# Altium footprint library IMR_LIB_PCB.PcbLib: 119 footprints (part 1 of 8)
Each footprint in its own frame and in the unit in brackets; x right, y up, seen from the top. Pads: shape width x height; smd on the part's side, far side on the other; paste and mask are expansions set on the pad; w line width, h text height; cw(c..) or ccw(c..) is an arc to the next point about the centre after c.
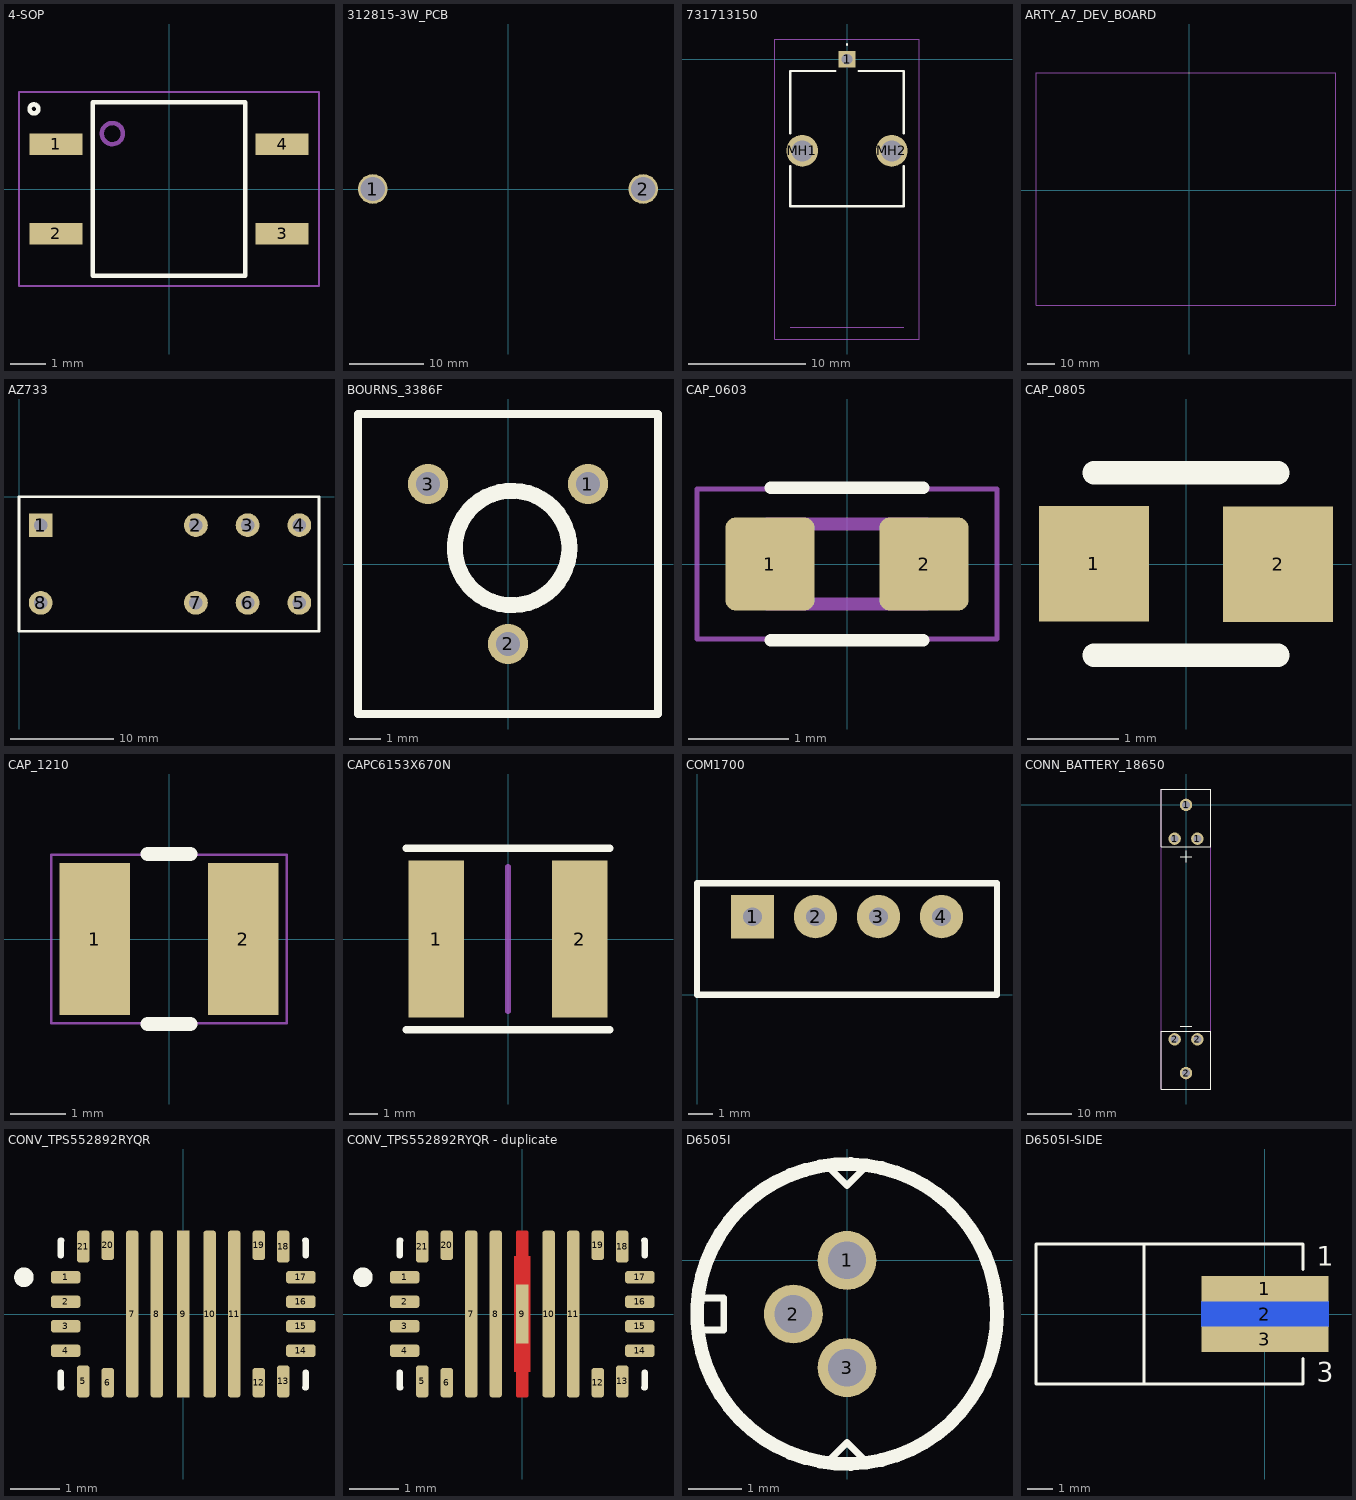
[diagram p0: the footprints below, top view; thin cyan lines are the x and y axes]

## 4-SOP [mm] "SOIC254P695X242-4N"
height 2.3
pads (4):
  rect 1.5x0.6 smd: 1(-3.205,1.27) 2(-3.205,-1.27) 3(3.205,-1.27) 4(3.205,1.27)
Top Overlay:
  circle w0.127: c-3.826,2.27 r0.127
  lines w0.127: -2.159,-2.46 2.159,-2.46 2.159,2.46 -2.159,2.46 -2.159,-2.46
3D Top:
  circle w0.127: c-1.605,1.57 r0.3
Courtyard Top:
  lines w0.05: -4.25,-2.75 4.25,-2.75 4.25,2.75 -4.25,2.75 -4.25,-2.75
3D body: height 2.4, standoff 0, extent -3.5,-1.925 3.5,1.925

## 312815-3W_PCB [mm] "Speaker Mounted (31x28x15)MM"
height 15
pads (2):
  round 4 hole 3.3 unplated: 1(-18.25,0) 2(18.25,0)
3D body: height 9.6, standoff -5.6, extent -22,-19.65 22,15.65

## 731713150 [mm]
pads (3):
  rect 1.431x1.431 hole 0.92: 1(0,0)
  round 2.7 hole 1.8: MH1(-3.8,-7.8) MH2(3.8,-7.8)
Top Overlay:
  lines w0.1: 0,1.2 cw(c0,1.25) 0,1.3 cw(c0,1.25) 0,1.2
  lines w0.2: -4.825,-9.1 -4.825,-12.5 4.825,-12.5 4.825,-9.1 ; -4.825,-6.3 -4.825,-1 -1,-1 ; 1,-1 4.825,-1 4.825,-6.3
Courtyard Top:
  lines w0.1: -4.825,-22.8 4.825,-22.8
Test Points Bottom:
  lines w0.1: -6.15,-23.8 -6.15,1.716 6.15,1.716 6.15,-23.8 -6.15,-23.8
3D body: height 9.39, standoff -2.89, extent -4.825,-25.525 4.825,0.025

## ARTY_A7_DEV_BOARD [mm] "Digilent Arty A7 Development Board"
height 20
3D Top:
  lines w0.254: -56.75,-42.75 -56.75,43.5 54.5,43.5 54.5,-42.75 -56.75,-42.75
3D body: height 16.3, standoff -3.7, extent -56.715,-42.86 54.5,43.5

## AZ733 [mm] "AMERICAN ZETTLER AZ733 SERIES"
height 26.3
pads (8):
  rect 2.3x2.3 hole 1.3: 1(2.1,-2.75)
  round 2.3 hole 1.3: 2(17.1,-2.75) 3(22.1,-2.75) 4(27.1,-2.75) 5(27.1,-10.25) 6(22.1,-10.25) 7(17.1,-10.25) 8(2.1,-10.25)
Top Overlay:
  lines w0.254: 0,-13 0,0 29,0 29,-13 0,-13
3D body: height 26.3, standoff 0, extent 0,-13 29,0

## BOURNS_3386F [mil] "RESISTOR POT 3386F SERIES"
height 410
pads (3):
  round 50 hole 30: 1(100,100) 2(0,-100) 3(-100,100)
Top Overlay:
  circle w20: c5,20 r71.59
  lines w10: -187.5,-187.5 -187.5,187.5 187.5,187.5 187.5,-187.5 -187.5,-187.5
3D body: height 411.85, standoff -233.15, extent -188.5,-190.15 188.5,196.85

## CAP_0603 [mm] "CAP 0603 50V"
height 0.9
pads (2):
  rrect22% 0.89x0.93 smd: 1(-0.77,0) 2(0.77,0)
Top Overlay:
  lines w0.127: -0.762,-0.762 0.762,-0.762 ; -0.762,0.762 0.762,0.762
3D Top:
  circle w0.1: c-1.05,0 r0.05
  lines w0.127: -0.8,-0.4 0.8,-0.4 0.8,0.4 -0.8,0.4 -0.8,-0.4
Courtyard Top:
  lines w0.05: -1.5,-0.75 1.5,-0.75 1.5,0.75 -1.5,0.75 -1.5,-0.75
3D body: height 0.85, standoff -0.05, extent -0.8,-0.405 0.8,0.405

## CAP_0805 [mm]
height 1
pads (2):
  rect 1.2x1.27 smd: 1(-1.008,0.003) 2(1.008,-0.003)
Top Overlay:
  lines w0.254: -1.008,-1 1.008,-1 ; -1.008,1 1.008,1
3D body: height 1.26, standoff 0.01, extent -1.05,-0.625 0.95,0.625

## CAP_1210 [mm] "CAP 1210"
height 0.2
pads (2):
  rect 1.26x2.72 smd: 1(-1.33,0) 2(1.33,0)
Top Overlay:
  lines w0.254: -0.381,-1.524 0.381,-1.524 ; -0.381,1.524 0.381,1.524
Courtyard Top:
  lines w0.1: -1.6,-1.25 -1.6,1.25 ; 1.6,-1.25 1.6,1.25
Test Points Bottom:
  lines w0.05: -2.11,-1.51 2.11,-1.51 2.11,1.51 -2.11,1.51 -2.11,-1.51
3D body: height 2.7, standoff 0, extent -1.6,-1.25 1.6,1.25

## CAPC6153X670N [mm] "CAPC6153X670N"
pads (2):
  rect 1.95x5.52 smd: 1(-2.53,0) 2(2.53,0)
Top Overlay:
  lines w0.254: -3.6,-3.2 3.6,-3.2 ; -3.6,3.2 3.6,3.2
Assembly Top:
  lines w0.1: -3.05,-2.65 -3.05,2.65 ; 3.05,-2.65 3.05,2.65
Mechanical 22:
  lines w0.2: 0,-2.55 0,2.55
3D body: height 6.7, standoff 0, extent -3.05,-2.65 3.05,2.65

## COM1700 [mm] "AOSONG COM1700"
height 15
pads (4):
  rect 1.75x1.75 hole 0.75: 1(2.24,3.15)
  round 1.75 hole 0.75: 2(4.78,3.15) 3(7.32,3.15) 4(9.86,3.15)
Top Overlay:
  lines w0.254: 0,0 0,4.5 12.1,4.5 12.1,0 0,0
3D body: height 15, standoff 0, extent 0,0 12.1,4.5

## CONN_BATTERY_18650 [mil] "BATTERY CONNECTOR 18650 MADE OF 2X KEYSTONE 54"
height 629.92
pads (6):
  round 110 hole 70: 1(-100,-300) 1(0,0) 1(100,-300) 2(-100,-2074.88) 2(0,-2374.88) 2(100,-2074.88)
Top Overlay:
  lines w10: -50,-1957.91 50,-1957.91 ; -50,-457.91 50,-457.91 ; 0,-507.91 0,-407.91 ; -220,-2514.88 220,-2514.88 220,-2004.88 -220,-2004.88 -220,-2514.88 ; -220,-370 220,-370 220,140 -220,140 -220,-370
Courtyard Top:
  lines w10: -220,-2514.88 220,-2514.88 220,140 -220,140 -220,-2514.88
3D body: height 724.41, standoff -116.25, extent -360.27,-371.93 352.39,140.16
3D body: height 724.41, standoff -116.25, extent -360.27,-2517.32 352.39,-2005.24
3D body: height 750, standoff 50, extent -349.68,-2443.35 349.68,56.65

## CONV_TPS552892RYQR [mm]
height 1
pads (21):
  rrect40% 0.6x0.25 smd paste-1 mask+0: 1(-2.4,0.75) 2(-2.4,0.25) 3(-2.4,-0.25) 4(-2.4,-0.75) 14(2.4,-0.75) 15(2.4,-0.25) 16(2.4,0.25) 17(2.4,0.75)
  rrect40% 0.25x0.65 smd paste-1 mask+0: 5(-2.04,-1.375) 13(2.04,-1.375) 18(2.04,1.375) 21(-2.04,1.375)
  rrect40% 0.25x0.6 smd paste-1 mask+0: 6(-1.54,-1.4) 12(1.54,-1.4) 19(1.54,1.4) 20(-1.54,1.4)
  rrect40% 0.25x3.4 smd: 7(-1.04,0) 8(-0.54,0) 10(0.54,0) 11(1.04,0)
  rect 0.25x3.4 smd: 9(0,0)
Top Overlay:
  circle w0.2: c-3.25,0.75 r0.1
  lines w0.127: -2.5,-1.195 -2.5,-1.5 -2.485,-1.5 ; -2.5,1.195 -2.5,1.5 -2.485,1.5 ; 2.485,-1.5 2.5,-1.5 2.5,-1.195 ; 2.485,1.5 2.5,1.5 2.5,1.195
Top Paste:
  drawing of 16 lines, arcs and shapes, not listed
Top Solder:
  drawing of 16 lines, arcs and shapes, not listed
3D body: height 1, standoff 0, extent -2.5,-1.5 2.5,1.5

## CONV_TPS552892RYQR - duplicate [mm]
height 1
pads (21):
  rrect40% 0.6x0.25 smd paste-1 mask+0: 1(-2.4,0.75) 2(-2.4,0.25) 3(-2.4,-0.25) 4(-2.4,-0.75) 14(2.4,-0.75) 15(2.4,-0.25) 16(2.4,0.25) 17(2.4,0.75)
  rrect40% 0.25x0.65 smd paste-1 mask+0: 5(-2.04,-1.375) 13(2.04,-1.375) 18(2.04,1.375) 21(-2.04,1.375)
  rrect40% 0.25x0.6 smd paste-1 mask+0: 6(-1.54,-1.4) 12(1.54,-1.4) 19(1.54,1.4) 20(-1.54,1.4)
  rrect40% 0.25x3.4 smd paste-3 mask+0: 7(-1.04,0) 8(-0.54,0) 10(0.54,0) 11(1.04,0)
  rect 0.25x1.2 smd paste-2 mask+0: 9(0,0)
Top Layer:
  region: 0.083,1.699 0.085,1.699 0.088,1.698 0.09,1.698 0.093,1.697 0.095,1.696 0.098,1.695 0.1,1.693 0.102,1.692 0.104,1.69 0.106,1.689 0.108,1.687 0.11,1.685 0.112,1.683 0.114,1.681 0.115,1.679 0.117,1.677 0.118,1.675 0.12,1.673 0.121,1.67 0.122,1.668 0.123,1.665 0.123,1.663 0.124,1.66 0.124,1.658 0.125,1.655 0.125,1.653 0.125,1.65 0.125,1.175 0.165,1.175 0.165,-1.175 0.125,-1.175 0.125,-1.65 0.125,-1.653 0.125,-1.655 0.124,-1.658 0.124,-1.66 0.123,-1.663 0.123,-1.665 0.122,-1.668 0.121,-1.67 0.12,-1.673 0.118,-1.675 0.117,-1.677 0.115,-1.679 0.114,-1.681 0.112,-1.683 0.11,-1.685 0.108,-1.687 0.106,-1.689 0.104,-1.69 0.102,-1.692 0.1,-1.693 0.098,-1.695 0.095,-1.696 0.093,-1.697 0.09,-1.698 0.088,-1.698 0.085,-1.699 0.083,-1.699 0.08,-1.7 -0.08,-1.7 -0.083,-1.699 -0.085,-1.699 -0.088,-1.698 -0.09,-1.698 -0.093,-1.697 -0.095,-1.696 -0.098,-1.695 -0.1,-1.693 -0.102,-1.692 -0.104,-1.69 -0.106,-1.689 -0.108,-1.687 -0.11,-1.685 -0.112,-1.683 -0.114,-1.681 -0.115,-1.679 -0.117,-1.677 -0.118,-1.675 -0.12,-1.673 -0.121,-1.67 -0.122,-1.668 -0.123,-1.665 -0.123,-1.663 -0.124,-1.66 -0.124,-1.658 -0.125,-1.655 -0.125,-1.653 -0.125,-1.65 -0.125,-1.175 -0.165,-1.175 -0.165,1.175 -0.125,1.175 -0.125,1.65 -0.125,1.653 -0.125,1.655 -0.124,1.658 -0.124,1.66 -0.123,1.663 -0.123,1.665 -0.122,1.668 -0.121,1.67 -0.12,1.673 -0.118,1.675 -0.117,1.677 -0.115,1.679 -0.114,1.681 -0.112,1.683 -0.11,1.685 -0.108,1.687 -0.106,1.689 -0.104,1.69 -0.102,1.692 -0.1,1.693 -0.098,1.695 -0.095,1.696 -0.093,1.697 -0.09,1.698 -0.088,1.698 -0.085,1.699 -0.083,1.699 -0.08,1.7 0.08,1.7
Top Overlay:
  circle w0.2: c-3.25,0.75 r0.1
  lines w0.127: -2.5,-1.195 -2.5,-1.5 -2.485,-1.5 ; -2.5,1.195 -2.5,1.5 -2.485,1.5 ; 2.485,-1.5 2.5,-1.5 2.5,-1.195 ; 2.485,1.5 2.5,1.5 2.5,1.195
Top Paste:
  drawing of 31 lines, arcs and shapes, not listed
Top Solder:
  drawing of 21 lines, arcs and shapes, not listed
3D body: height 1, standoff 0, extent -2.5,-1.5 2.5,1.5

## D6505I [mm] "D6505I LASER DIOIDE"
height 3.6
pads (3):
  round 1.1 hole 0.7: 1(0,0) 2(-1,-1) 3(0,-2)
Top Overlay:
  circle w0.254: c0,-1 r2.8
  lines w0.127: -2.8,-1.3 -2.3,-1.3 -2.3,-0.7 -2.8,-0.7 ; -0.4,-3.8 0,-3.4 0.4,-3.8 ; -0.3,1.7 0,1.4 0.3,1.7
3D body: height 3.8, standoff -6.5, extent -2.755,-3.771 2.8,1.771

## D6505I-SIDE [mm] "D6505I LASER DIOIDE SIDE EDGE MOUNT"
height 3.6
pads (3):
  rect 5x1 smd: 1(0,1) 3(0,-1)
  rect 5x1 smd far side: 2(0,0)
Top Overlay:
  lines w0.127: -4.75,-2.75 -4.75,2.75 ; 1.5,-1.75 1.5,-2.75 -9,-2.75 -9,2.75 1.5,2.75 1.5,1.75
  text "3" at 2.032,-2.667 h0.76
  text "1" at 2.032,1.905 h0.76
Bottom Overlay:
  lines w0.127: -4.75,-2.75 -4.75,2.75 ; 1.5,-1.75 1.5,-2.75 -9,-2.75 -9,2.75 1.5,2.75 1.5,1.75
  text "2" at 2.5,0.75 h0.76
3D body: height 3.3, standoff -2.25, extent -8.8,-2.771 1.5,2.771